# EAGLE library part XF3M-5015-1B (library mylib)
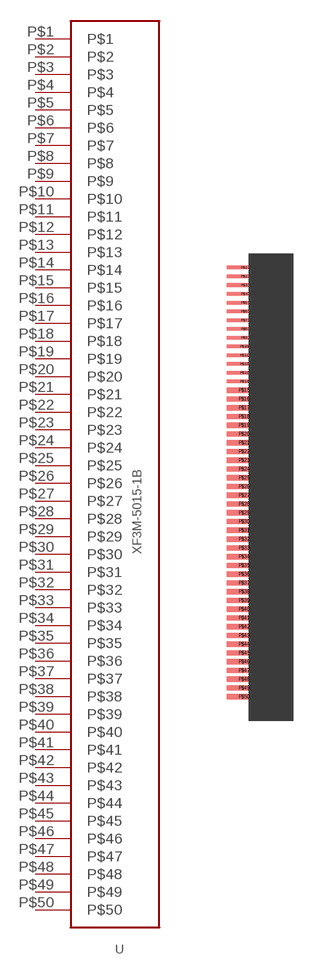
[diagram p6: symbol with the pads of XF3M-5015-1B; footprint XF3M-5015-1B]

Designator prefix -

## XF3M-5015-1B  [XF3M-5015-1B]
P$1  P$1
P$2  P$2
P$3  P$3
P$4  P$4
P$5  P$5
P$6  P$6
P$7  P$7
P$8  P$8
P$9  P$9
P$10  P$10
P$11  P$11
P$12  P$12
P$13  P$13
P$14  P$14
P$15  P$15
P$16  P$16
P$17  P$17
P$18  P$18
P$19  P$19
P$20  P$20
P$21  P$21
P$22  P$22
P$23  P$23
P$24  P$24
P$25  P$25
P$26  P$26
P$27  P$27
P$28  P$28
P$29  P$29
P$30  P$30
P$31  P$31
P$32  P$32
P$33  P$33
P$34  P$34
P$35  P$35
P$36  P$36
P$37  P$37
P$38  P$38
P$39  P$39
P$40  P$40
P$41  P$41
P$42  P$42
P$43  P$43
P$44  P$44
P$45  P$45
P$46  P$46
P$47  P$47
P$48  P$48
P$49  P$49
P$50  P$50

## Footprint XF3M-5015-1B (pad centres in mm)
smd 2 x 0.2: P$1 1.02,24.605; P$2 1.02,24.105; P$3 1.02,23.605; P$4 1.02,23.105; P$5 1.02,22.605; P$6 1.02,22.105; P$7 1.02,21.605; P$8 1.02,21.105; P$9 1.02,20.605; P$10 1.02,20.105; P$11 1.02,19.605; P$12 1.02,19.105; P$13 1.02,18.605; P$14 1.02,18.105
smd 2 x 0.3: P$15 1.02,17.605; P$16 1.02,17.105; P$17 1.02,16.605; P$18 1.02,16.105; P$19 1.02,15.605; P$20 1.02,15.105; P$21 1.02,14.605; P$22 1.02,14.105; P$23 1.02,13.605; P$24 1.02,13.105; P$25 1.02,12.605; P$26 1.02,12.105; P$27 1.02,11.605; P$28 1.02,11.105; P$29 1.02,10.605; P$30 1.02,10.105; P$31 1.02,9.605; P$32 1.02,9.105; P$33 1.02,8.605; P$34 1.02,8.105; P$35 1.02,7.605; P$36 1.02,7.105; P$37 1.02,6.605; P$38 1.02,6.105; P$39 1.02,5.605; P$40 1.02,5.105; P$41 1.02,4.605; P$42 1.02,4.105; P$43 1.02,3.605; P$44 1.02,3.105; P$45 1.02,2.605; P$46 1.02,2.105; P$47 1.02,1.605; P$48 1.02,1.105; P$49 1.02,0.605; P$50 1.02,0.105